# Altium integrated library Actel SmartFusion.IntLib: 80 symbols (part 14 of 14)
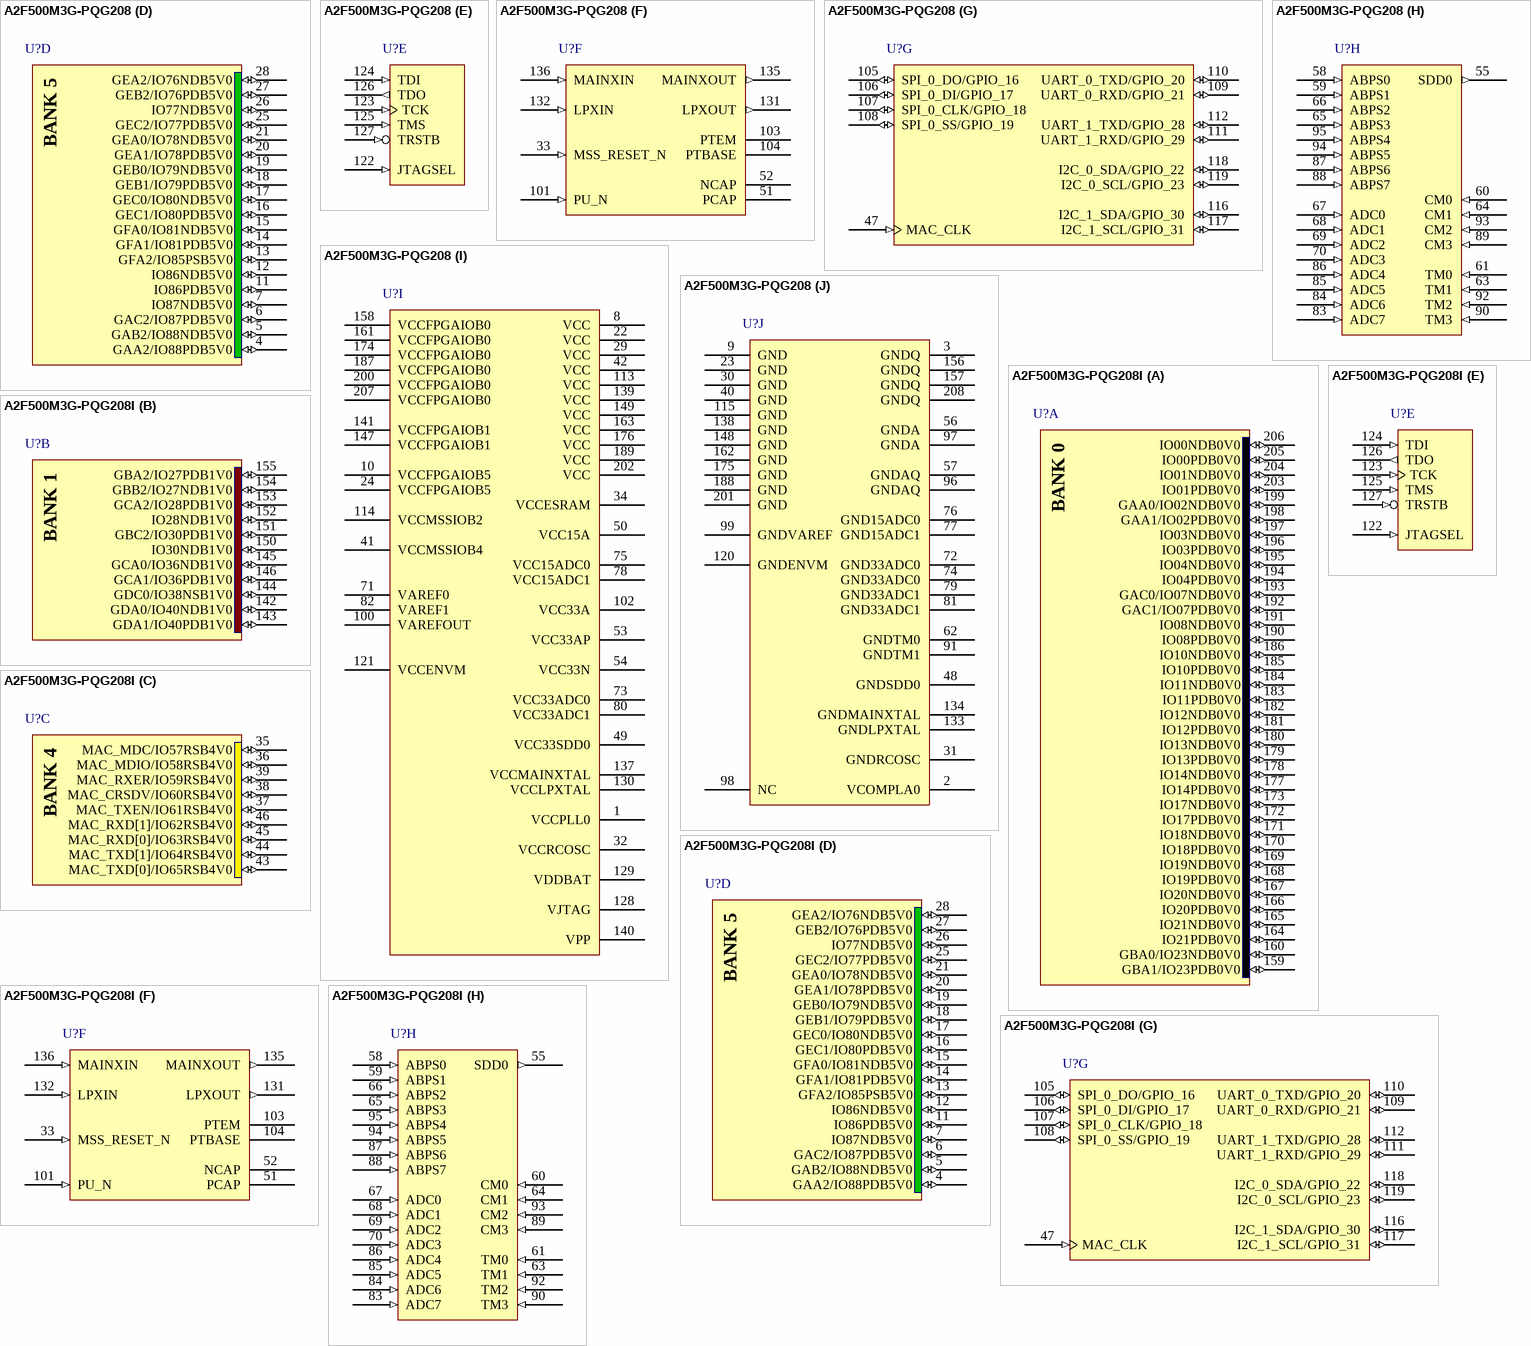
[diagram p98: symbols A2F500M3G-PQG208 to A2F500M3G-PQG208I]

## A2F500M3G-PQG208
designator U?
SmartFusion Intellegent Mixed-Signal FPGA with ARM Cortex-M3, 500000 System Gates, 208-Pin PQFP, Standard Speed Grade, Commercial Grade, Pb-Free; DatasheetVersion: rev7, Aug-2011; PackageVersion: ver11.2, Nov-2009; PackageReference: PQ208; PackageDescription: 208-Pin Plastic Quad Flat Pack (PQ208); Code_JEDEC: MS-029-FA-1; ComponentLink1Description: Manufacturer URL; ComponentLink1URL: http://www.actel.com/; ComponentLink2Description: SmartFusion Datasheet; ComponentLink2URL: http://www.actel.com/documents/SmartFusion_DS.pdf; ComponentLink3Description: Package Mechanical Drawings; ComponentLink3URL: http://www.actel.com/documents/PckgMechDrwngs.pdf; ComponentLink4Description: SmartFusion Documents; ComponentLink4URL: http://www.actel.com/products/smartfusion/docs.aspx
footprint PQ208_N (Shrink QFP, 208-Leads, Body 28x28mm, Pitch 0.5mm, IPC Medium Density)
footprint PQ208_L (Shrink QFP, 208-Leads, Body 28x28mm, Pitch 0.5mm, IPC High Density)
footprint PQ208_M (Shrink QFP, 208-Leads, Body 28x28mm, Pitch 0.5mm, IPC Low Density)
part A pins: 159 GBA1/IO23PDB0V0 (io), 160 GBA0/IO23NDB0V0 (io), 164 IO21PDB0V0 (io), 165 IO21NDB0V0 (io), 166 IO20PDB0V0 (io), 167 IO20NDB0V0 (io), 168 IO19PDB0V0 (io), 169 IO19NDB0V0 (io), 170 IO18PDB0V0 (io), 171 IO18NDB0V0 (io), 172 IO17PDB0V0 (io), 173 IO17NDB0V0 (io), 177 IO14PDB0V0 (io), 178 IO14NDB0V0 (io), 179 IO13PDB0V0 (io), 180 IO13NDB0V0 (io), 181 IO12PDB0V0 (io), 182 IO12NDB0V0 (io), 183 IO11PDB0V0 (io), 184 IO11NDB0V0 (io), 185 IO10PDB0V0 (io), 186 IO10NDB0V0 (io), 190 IO08PDB0V0 (io), 191 IO08NDB0V0 (io), 192 GAC1/IO07PDB0V0 (io), 193 GAC0/IO07NDB0V0 (io), 194 IO04PDB0V0 (io), 195 IO04NDB0V0 (io), 196 IO03PDB0V0 (io), 197 IO03NDB0V0 (io), 198 GAA1/IO02PDB0V0 (io), 199 GAA0/IO02NDB0V0 (io), 203 IO01PDB0V0 (io), 204 IO01NDB0V0 (io), 205 IO00PDB0V0 (io), 206 IO00NDB0V0 (io)
part B pins: 142 GDA0/IO40NDB1V0 (io), 143 GDA1/IO40PDB1V0 (io), 144 GDC0/IO38NSB1V0 (io), 145 GCA0/IO36NDB1V0 (io), 146 GCA1/IO36PDB1V0 (io), 150 IO30NDB1V0 (io), 151 GBC2/IO30PDB1V0 (io), 152 IO28NDB1V0 (io), 153 GCA2/IO28PDB1V0 (io), 154 GBB2/IO27NDB1V0 (io), 155 GBA2/IO27PDB1V0 (io)
part C pins: 35 MAC_MDC/IO57RSB4V0 (io), 36 MAC_MDIO/IO58RSB4V0 (io), 37 MAC_TXEN/IO61RSB4V0 (io), 38 MAC_CRSDV/IO60RSB4V0 (io), 39 MAC_RXER/IO59RSB4V0 (io), 43 MAC_TXD[0]/IO65RSB4V0 (io), 44 MAC_TXD[1]/IO64RSB4V0 (io), 45 MAC_RXD[0]/IO63RSB4V0 (io), 46 MAC_RXD[1]/IO62RSB4V0 (io)
part D pins: 4 GAA2/IO88PDB5V0 (io), 5 GAB2/IO88NDB5V0 (io), 6 GAC2/IO87PDB5V0 (io), 7 IO87NDB5V0 (io), 11 IO86PDB5V0 (io), 12 IO86NDB5V0 (io), 13 GFA2/IO85PSB5V0 (io), 14 GFA1/IO81PDB5V0 (io), 15 GFA0/IO81NDB5V0 (io), 16 GEC1/IO80PDB5V0 (io), 17 GEC0/IO80NDB5V0 (io), 18 GEB1/IO79PDB5V0 (io), 19 GEB0/IO79NDB5V0 (io), 20 GEA1/IO78PDB5V0 (io), 21 GEA0/IO78NDB5V0 (io), 25 GEC2/IO77PDB5V0 (io), 26 IO77NDB5V0 (io), 27 GEB2/IO76PDB5V0 (io), 28 GEA2/IO76NDB5V0 (io)
part E pins: 122 JTAGSEL (in), 123 TCK (in), 124 TDI (in), 125 TMS (in), 126 TDO (out), 127 TRSTB (in)
part F pins: 33 MSS_RESET_N (in), 51 PCAP, 52 NCAP, 101 PU_N (in), 103 PTEM, 104 PTBASE, 131 LPXOUT (out), 132 LPXIN (in), 135 MAINXOUT (out), 136 MAINXIN (in)
part G pins: 47 MAC_CLK (in), 105 SPI_0_DO/GPIO_16 (io), 106 SPI_0_DI/GPIO_17 (io), 107 SPI_0_CLK/GPIO_18 (io), 108 SPI_0_SS/GPIO_19 (io), 109 UART_0_RXD/GPIO_21 (io), 110 UART_0_TXD/GPIO_20 (io), 111 UART_1_RXD/GPIO_29 (io), 112 UART_1_TXD/GPIO_28 (io), 116 I2C_1_SDA/GPIO_30 (io), 117 I2C_1_SCL/GPIO_31 (io), 118 I2C_0_SDA/GPIO_22 (io), 119 I2C_0_SCL/GPIO_23 (io)
part H pins: 55 SDD0 (out), 58 ABPS0 (in), 59 ABPS1 (in), 60 CM0 (in), 61 TM0 (in), 63 TM1 (in), 64 CM1 (in), 65 ABPS3 (in), 66 ABPS2 (in), 67 ADC0 (in), 68 ADC1 (in), 69 ADC2 (in), 70 ADC3 (in), 83 ADC7 (in), 84 ADC6 (in), 85 ADC5 (in), 86 ADC4 (in), 87 ABPS6 (in), 88 ABPS7 (in), 89 CM3 (in), 90 TM3 (in), 92 TM2 (in), 93 CM2 (in), 94 ABPS5 (in), 95 ABPS4 (in)
part I pins: 1 VCCPLL0 (power), 8 VCC (power), 10 VCCFPGAIOB5 (power), 22 VCC (power), 24 VCCFPGAIOB5 (power), 29 VCC (power), 32 VCCRCOSC (power), 34 VCCESRAM (power), 41 VCCMSSIOB4 (power), 42 VCC (power), 49 VCC33SDD0 (power), 50 VCC15A (power), 53 VCC33AP (power), 54 VCC33N (power), 71 VAREF0 (power), 73 VCC33ADC0 (power), 75 VCC15ADC0 (power), 78 VCC15ADC1 (power), 80 VCC33ADC1 (power), 82 VAREF1 (power), 100 VAREFOUT (power), 102 VCC33A (power), 113 VCC (power), 114 VCCMSSIOB2 (power), 121 VCCENVM (power), 128 VJTAG (power), 129 VDDBAT (power), 130 VCCLPXTAL (power), 137 VCCMAINXTAL (power), 139 VCC (power), 140 VPP (power), 141 VCCFPGAIOB1 (power), 147 VCCFPGAIOB1 (power), 149 VCC (power), 158 VCCFPGAIOB0 (power), 161 VCCFPGAIOB0 (power), 163 VCC (power), 174 VCCFPGAIOB0 (power), 176 VCC (power), 187 VCCFPGAIOB0 (power), 189 VCC (power), 200 VCCFPGAIOB0 (power), 202 VCC (power), 207 VCCFPGAIOB0 (power)
part J pins: 2 VCOMPLA0 (power), 3 GNDQ (power), 9 GND (power), 23 GND (power), 30 GND (power), 31 GNDRCOSC (power), 40 GND (power), 48 GNDSDD0 (power), 56 GNDA (power), 57 GNDAQ (power), 62 GNDTM0 (power), 72 GND33ADC0 (power), 74 GND33ADC0 (power), 76 GND15ADC0 (power), 77 GND15ADC1 (power), 79 GND33ADC1 (power), 81 GND33ADC1 (power), 91 GNDTM1 (power), 96 GNDAQ (power), 97 GNDA (power), 98 NC, 99 GNDVAREF (power), 115 GND (power), 120 GNDENVM (power), 133 GNDLPXTAL (power), 134 GNDMAINXTAL (power), 138 GND (power), 148 GND (power), 156 GNDQ (power), 157 GNDQ (power), 162 GND (power), 175 GND (power), 188 GND (power), 201 GND (power), 208 GNDQ (power)
part A text: BANK 0
part B text: BANK 1
part C text: BANK 4
part D text: BANK 5

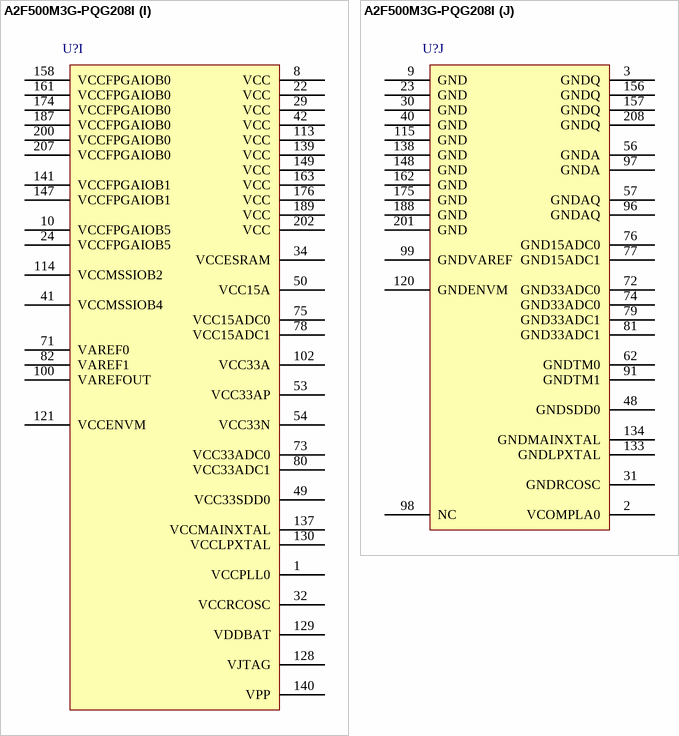
[diagram p85: symbol A2F500M3G-PQG208I]

## A2F500M3G-PQG208I
designator U?
SmartFusion Intellegent Mixed-Signal FPGA with ARM Cortex-M3, 500000 System Gates, 208-Pin PQFP, Standard Speed Grade, Industrial Grade, Pb-Free; DatasheetVersion: rev7, Aug-2011; PackageVersion: ver11.2, Nov-2009; PackageReference: PQ208; PackageDescription: 208-Pin Plastic Quad Flat Pack (PQ208); Code_JEDEC: MS-029-FA-1; ComponentLink1Description: Manufacturer URL; ComponentLink1URL: http://www.actel.com/; ComponentLink2Description: SmartFusion Datasheet; ComponentLink2URL: http://www.actel.com/documents/SmartFusion_DS.pdf; ComponentLink3Description: Package Mechanical Drawings; ComponentLink3URL: http://www.actel.com/documents/PckgMechDrwngs.pdf; ComponentLink4Description: SmartFusion Documents; ComponentLink4URL: http://www.actel.com/products/smartfusion/docs.aspx
footprint PQ208_N (Shrink QFP, 208-Leads, Body 28x28mm, Pitch 0.5mm, IPC Medium Density)
footprint PQ208_L (Shrink QFP, 208-Leads, Body 28x28mm, Pitch 0.5mm, IPC High Density)
footprint PQ208_M (Shrink QFP, 208-Leads, Body 28x28mm, Pitch 0.5mm, IPC Low Density)
part A pins: 159 GBA1/IO23PDB0V0 (io), 160 GBA0/IO23NDB0V0 (io), 164 IO21PDB0V0 (io), 165 IO21NDB0V0 (io), 166 IO20PDB0V0 (io), 167 IO20NDB0V0 (io), 168 IO19PDB0V0 (io), 169 IO19NDB0V0 (io), 170 IO18PDB0V0 (io), 171 IO18NDB0V0 (io), 172 IO17PDB0V0 (io), 173 IO17NDB0V0 (io), 177 IO14PDB0V0 (io), 178 IO14NDB0V0 (io), 179 IO13PDB0V0 (io), 180 IO13NDB0V0 (io), 181 IO12PDB0V0 (io), 182 IO12NDB0V0 (io), 183 IO11PDB0V0 (io), 184 IO11NDB0V0 (io), 185 IO10PDB0V0 (io), 186 IO10NDB0V0 (io), 190 IO08PDB0V0 (io), 191 IO08NDB0V0 (io), 192 GAC1/IO07PDB0V0 (io), 193 GAC0/IO07NDB0V0 (io), 194 IO04PDB0V0 (io), 195 IO04NDB0V0 (io), 196 IO03PDB0V0 (io), 197 IO03NDB0V0 (io), 198 GAA1/IO02PDB0V0 (io), 199 GAA0/IO02NDB0V0 (io), 203 IO01PDB0V0 (io), 204 IO01NDB0V0 (io), 205 IO00PDB0V0 (io), 206 IO00NDB0V0 (io)
part B pins: 142 GDA0/IO40NDB1V0 (io), 143 GDA1/IO40PDB1V0 (io), 144 GDC0/IO38NSB1V0 (io), 145 GCA0/IO36NDB1V0 (io), 146 GCA1/IO36PDB1V0 (io), 150 IO30NDB1V0 (io), 151 GBC2/IO30PDB1V0 (io), 152 IO28NDB1V0 (io), 153 GCA2/IO28PDB1V0 (io), 154 GBB2/IO27NDB1V0 (io), 155 GBA2/IO27PDB1V0 (io)
part C pins: 35 MAC_MDC/IO57RSB4V0 (io), 36 MAC_MDIO/IO58RSB4V0 (io), 37 MAC_TXEN/IO61RSB4V0 (io), 38 MAC_CRSDV/IO60RSB4V0 (io), 39 MAC_RXER/IO59RSB4V0 (io), 43 MAC_TXD[0]/IO65RSB4V0 (io), 44 MAC_TXD[1]/IO64RSB4V0 (io), 45 MAC_RXD[0]/IO63RSB4V0 (io), 46 MAC_RXD[1]/IO62RSB4V0 (io)
part D pins: 4 GAA2/IO88PDB5V0 (io), 5 GAB2/IO88NDB5V0 (io), 6 GAC2/IO87PDB5V0 (io), 7 IO87NDB5V0 (io), 11 IO86PDB5V0 (io), 12 IO86NDB5V0 (io), 13 GFA2/IO85PSB5V0 (io), 14 GFA1/IO81PDB5V0 (io), 15 GFA0/IO81NDB5V0 (io), 16 GEC1/IO80PDB5V0 (io), 17 GEC0/IO80NDB5V0 (io), 18 GEB1/IO79PDB5V0 (io), 19 GEB0/IO79NDB5V0 (io), 20 GEA1/IO78PDB5V0 (io), 21 GEA0/IO78NDB5V0 (io), 25 GEC2/IO77PDB5V0 (io), 26 IO77NDB5V0 (io), 27 GEB2/IO76PDB5V0 (io), 28 GEA2/IO76NDB5V0 (io)
part E pins: 122 JTAGSEL (in), 123 TCK (in), 124 TDI (in), 125 TMS (in), 126 TDO (out), 127 TRSTB (in)
part F pins: 33 MSS_RESET_N (in), 51 PCAP, 52 NCAP, 101 PU_N (in), 103 PTEM, 104 PTBASE, 131 LPXOUT (out), 132 LPXIN (in), 135 MAINXOUT (out), 136 MAINXIN (in)
part G pins: 47 MAC_CLK (in), 105 SPI_0_DO/GPIO_16 (io), 106 SPI_0_DI/GPIO_17 (io), 107 SPI_0_CLK/GPIO_18 (io), 108 SPI_0_SS/GPIO_19 (io), 109 UART_0_RXD/GPIO_21 (io), 110 UART_0_TXD/GPIO_20 (io), 111 UART_1_RXD/GPIO_29 (io), 112 UART_1_TXD/GPIO_28 (io), 116 I2C_1_SDA/GPIO_30 (io), 117 I2C_1_SCL/GPIO_31 (io), 118 I2C_0_SDA/GPIO_22 (io), 119 I2C_0_SCL/GPIO_23 (io)
part H pins: 55 SDD0 (out), 58 ABPS0 (in), 59 ABPS1 (in), 60 CM0 (in), 61 TM0 (in), 63 TM1 (in), 64 CM1 (in), 65 ABPS3 (in), 66 ABPS2 (in), 67 ADC0 (in), 68 ADC1 (in), 69 ADC2 (in), 70 ADC3 (in), 83 ADC7 (in), 84 ADC6 (in), 85 ADC5 (in), 86 ADC4 (in), 87 ABPS6 (in), 88 ABPS7 (in), 89 CM3 (in), 90 TM3 (in), 92 TM2 (in), 93 CM2 (in), 94 ABPS5 (in), 95 ABPS4 (in)
part I pins: 1 VCCPLL0 (power), 8 VCC (power), 10 VCCFPGAIOB5 (power), 22 VCC (power), 24 VCCFPGAIOB5 (power), 29 VCC (power), 32 VCCRCOSC (power), 34 VCCESRAM (power), 41 VCCMSSIOB4 (power), 42 VCC (power), 49 VCC33SDD0 (power), 50 VCC15A (power), 53 VCC33AP (power), 54 VCC33N (power), 71 VAREF0 (power), 73 VCC33ADC0 (power), 75 VCC15ADC0 (power), 78 VCC15ADC1 (power), 80 VCC33ADC1 (power), 82 VAREF1 (power), 100 VAREFOUT (power), 102 VCC33A (power), 113 VCC (power), 114 VCCMSSIOB2 (power), 121 VCCENVM (power), 128 VJTAG (power), 129 VDDBAT (power), 130 VCCLPXTAL (power), 137 VCCMAINXTAL (power), 139 VCC (power), 140 VPP (power), 141 VCCFPGAIOB1 (power), 147 VCCFPGAIOB1 (power), 149 VCC (power), 158 VCCFPGAIOB0 (power), 161 VCCFPGAIOB0 (power), 163 VCC (power), 174 VCCFPGAIOB0 (power), 176 VCC (power), 187 VCCFPGAIOB0 (power), 189 VCC (power), 200 VCCFPGAIOB0 (power), 202 VCC (power), 207 VCCFPGAIOB0 (power)
part J pins: 2 VCOMPLA0 (power), 3 GNDQ (power), 9 GND (power), 23 GND (power), 30 GND (power), 31 GNDRCOSC (power), 40 GND (power), 48 GNDSDD0 (power), 56 GNDA (power), 57 GNDAQ (power), 62 GNDTM0 (power), 72 GND33ADC0 (power), 74 GND33ADC0 (power), 76 GND15ADC0 (power), 77 GND15ADC1 (power), 79 GND33ADC1 (power), 81 GND33ADC1 (power), 91 GNDTM1 (power), 96 GNDAQ (power), 97 GNDA (power), 98 NC, 99 GNDVAREF (power), 115 GND (power), 120 GNDENVM (power), 133 GNDLPXTAL (power), 134 GNDMAINXTAL (power), 138 GND (power), 148 GND (power), 156 GNDQ (power), 157 GNDQ (power), 162 GND (power), 175 GND (power), 188 GND (power), 201 GND (power), 208 GNDQ (power)
part A text: BANK 0
part B text: BANK 1
part C text: BANK 4
part D text: BANK 5